# Altium schematic symbol library WE-MPSA.SchLib: 16 symbols
Pins are listed as number, name and electrical type; pins without a type are passive.

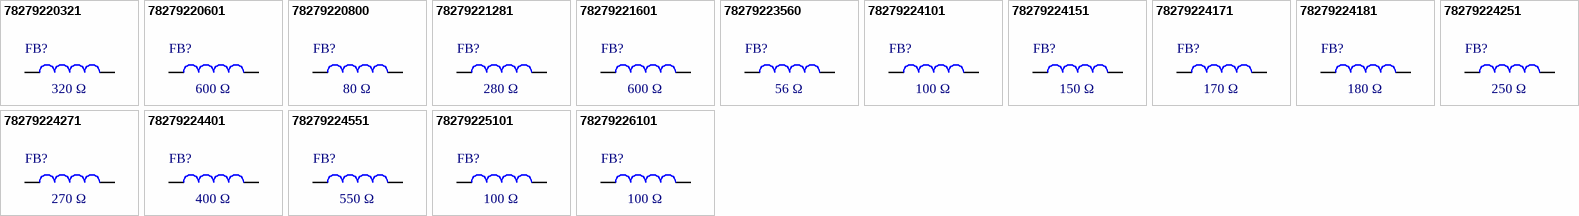
[diagram p0: symbols 78279220321 to 78279226101]

## 78279220321
designator FB?, comment 320 Ω
WE-MPSA EMI Multilayer Power Suppression Bead, size 0805, 320 Ω, 2.5 A; Manufacturer Part Number: 78279220321; Manufacturer: Wurth Elektronik; Case/Size Code: 0805; DC Resistance Max: 50 mΩ; Impedance Max: 347 Ω; Rated Current: 2.5 A; Type: High Current; Category: Ferrites for PCB Assembly; Match Code: WE-MPSA; ComponentLink1Description: Website Link; ComponentLink1URL: https://www.we-online.com/redexpert/article/78279220321?ad; ComponentLink2Description: Datasheet Link; ComponentLink2URL: https://www.we-online.com/redexpert/spec/78279220321?ad; Mount: Surface Mount; Min Operating Temperature: -55 °C; Max Operating Temperature: 125 °C; Packaging: Tape and Reel; Length: 2 mm; Width: 1.2 mm; Height: 0.9 mm; Automotive: Yes; Impedance @100MHz: 320 Ω
footprint WE-MPSA_0805_L2W1.2H0.9
simulation model 0805_78279220321_320Ohm
pins: 1, 2

## 78279220601
designator FB?, comment 600 Ω
WE-MPSA EMI Multilayer Power Suppression Bead, size 0805, 600 Ω, 2.1 A; Manufacturer Part Number: 78279220601; Manufacturer: Wurth Elektronik; Case/Size Code: 0805; DC Resistance Max: 80 mΩ; Impedance Max: 551 Ω; Rated Current: 2.1 A; Type: High Current; Category: Ferrites for PCB Assembly; Match Code: WE-MPSA; ComponentLink1Description: Website Link; ComponentLink1URL: https://www.we-online.com/redexpert/article/78279220601?ad; ComponentLink2Description: Datasheet Link; ComponentLink2URL: https://www.we-online.com/redexpert/spec/78279220601?ad; Mount: Surface Mount; Min Operating Temperature: -55 °C; Max Operating Temperature: 125 °C; Packaging: Tape and Reel; Length: 2 mm; Width: 1.2 mm; Height: 0.9 mm; Automotive: Yes; Impedance @100MHz: 600 Ω
footprint WE-MPSA_0805_L2W1.2H0.9
simulation model 0805_78279220601_600Ohm
pins: 1, 2

## 78279220800
designator FB?, comment 80 Ω
WE-MPSA EMI Multilayer Power Suppression Bead, size 0805, 80 Ω, 4 A; Manufacturer Part Number: 78279220800; Manufacturer: Wurth Elektronik; Case/Size Code: 0805; DC Resistance Max: 18 mΩ; Impedance Max: 120 Ω; Rated Current: 4 A; Type: High Current; Category: Ferrites for PCB Assembly; Match Code: WE-MPSA; ComponentLink1Description: Website Link; ComponentLink1URL: https://www.we-online.com/redexpert/article/78279220800?ad; ComponentLink2Description: Datasheet Link; ComponentLink2URL: https://www.we-online.com/redexpert/spec/78279220800?ad; Mount: Surface Mount; Min Operating Temperature: -55 °C; Max Operating Temperature: 125 °C; Packaging: Tape and Reel; Length: 2 mm; Width: 1.2 mm; Height: 0.9 mm; Automotive: Yes; Impedance @100MHz: 80 Ω
footprint WE-MPSA_0805_L2W1.2H0.9
simulation model 0805_78279220800_80Ohm
pins: 1, 2

## 78279221281
designator FB?, comment 280 Ω
WE-MPSA EMI Multilayer Power Suppression Bead, size 1206, 280 Ω, 3.5 A; Manufacturer Part Number: 78279221281; Manufacturer: Wurth Elektronik; Case/Size Code: 1206; DC Resistance Max: 35 mΩ; Impedance Max: 288 Ω; Rated Current: 3.5 A; Type: High Current; Category: Ferrites for PCB Assembly; Match Code: WE-MPSA; ComponentLink1Description: Website Link; ComponentLink1URL: https://www.we-online.com/redexpert/article/78279221281?ad; ComponentLink2Description: Datasheet Link; ComponentLink2URL: https://www.we-online.com/redexpert/spec/78279221281?ad; Mount: Surface Mount; Min Operating Temperature: -55 °C; Max Operating Temperature: 125 °C; Packaging: Tape and Reel; Length: 3.2 mm; Width: 1.6 mm; Height: 1.1 mm; Automotive: Yes; Impedance @100MHz: 280 Ω
footprint WE-MPSA_1206_L3.2W1.6H1.1
simulation model 1206_78279221281_280Ohm
pins: 1, 2

## 78279221601
designator FB?, comment 600 Ω
WE-MPSA EMI Multilayer Power Suppression Bead, size 1206, 600 Ω, 2.5 A; Manufacturer Part Number: 78279221601; Manufacturer: Wurth Elektronik; Case/Size Code: 1206; DC Resistance Max: 50 mΩ; Impedance Max: 610 Ω; Rated Current: 2.5 A; Type: High Current; Category: Ferrites for PCB Assembly; Match Code: WE-MPSA; ComponentLink1Description: Website Link; ComponentLink1URL: https://www.we-online.com/redexpert/article/78279221601?ad; ComponentLink2Description: Datasheet Link; ComponentLink2URL: https://www.we-online.com/redexpert/spec/78279221601?ad; Mount: Surface Mount; Min Operating Temperature: -55 °C; Max Operating Temperature: 125 °C; Packaging: Tape and Reel; Length: 3.2 mm; Width: 1.6 mm; Height: 1.1 mm; Automotive: Yes; Impedance @100MHz: 600 Ω
footprint WE-MPSA_1206_L3.2W1.6H1.1
simulation model 1206_78279221601_600Ohm
pins: 1, 2

## 78279223560
designator FB?, comment 56 Ω
WE-MPSA EMI Multilayer Power Suppression Bead, size 1612, 56 Ω, 10 A; Manufacturer Part Number: 78279223560; Manufacturer: Wurth Elektronik; Case/Size Code: 1612; DC Resistance Max: 4 mΩ; Impedance Max: 90 Ω; Rated Current: 10 A; Type: High Current; Category: Ferrites for PCB Assembly; Match Code: WE-MPSA; ComponentLink1Description: Website Link; ComponentLink1URL: https://www.we-online.com/redexpert/article/78279223560?ad; ComponentLink2Description: Datasheet Link; ComponentLink2URL: https://www.we-online.com/redexpert/spec/78279223560?ad; Mount: Surface Mount; Min Operating Temperature: -55 °C; Max Operating Temperature: 125 °C; Packaging: Tape and Reel; Length: 4.06 mm; Width: 3.05 mm; Height: 2.28 mm; Automotive: Yes; Impedance @100MHz: 56 Ω
footprint WE-MPSA_1612_L4.06W3.05H2.28
simulation model 1612_78279223560_56Ohm
pins: 1, 2

## 78279224101
designator FB?, comment 100 Ω
WE-MPSA EMI Multilayer Power Suppression Bead, size 2220, 100 Ω, 7 A; Manufacturer Part Number: 78279224101; Manufacturer: Wurth Elektronik; Case/Size Code: 2220; DC Resistance Max: 5 mΩ; Impedance Max: 160 Ω; Rated Current: 7 A; Type: High Current; Category: Ferrites for PCB Assembly; Match Code: WE-MPSA; ComponentLink1Description: Website Link; ComponentLink1URL: https://www.we-online.com/redexpert/article/78279224101?ad; ComponentLink2Description: Datasheet Link; ComponentLink2URL: https://www.we-online.com/redexpert/spec/78279224101?ad; Mount: Surface Mount; Min Operating Temperature: -55 °C; Max Operating Temperature: 125 °C; Packaging: Tape and Reel; Length: 5.59 mm; Width: 5.08 mm; Height: 1.8 mm; Automotive: Yes; Impedance @100MHz: 100 Ω
footprint WE-MPSA_2220_L5.59W5.08H1.8
simulation model 2220_78279224101_100Ohm
pins: 1, 2

## 78279224151
designator FB?, comment 150 Ω
WE-MPSA EMI Multilayer Power Suppression Bead, size 2220, 150 Ω, 5 A; Manufacturer Part Number: 78279224151; Manufacturer: Wurth Elektronik; Case/Size Code: 2220; DC Resistance Max: 10 mΩ; Impedance Max: 230 Ω; Rated Current: 5 A; Type: High Current; Category: Ferrites for PCB Assembly; Match Code: WE-MPSA; ComponentLink1Description: Website Link; ComponentLink1URL: https://www.we-online.com/redexpert/article/78279224151?ad; ComponentLink2Description: Datasheet Link; ComponentLink2URL: https://www.we-online.com/redexpert/spec/78279224151?ad; Mount: Surface Mount; Min Operating Temperature: -55 °C; Max Operating Temperature: 125 °C; Packaging: Tape and Reel; Length: 5.59 mm; Width: 5.08 mm; Height: 1.8 mm; Automotive: Yes; Impedance @100MHz: 150 Ω
footprint WE-MPSA_2220_L5.59W5.08H1.8
simulation model 2220_78279224151_150Ohm
pins: 1, 2

## 78279224171
designator FB?, comment 170 Ω
WE-MPSA EMI Multilayer Power Suppression Bead, size 2220, 170 Ω, 4 A; Manufacturer Part Number: 78279224171; Manufacturer: Wurth Elektronik; Case/Size Code: 2220; DC Resistance Max: 15 mΩ; Impedance Max: 280 Ω; Rated Current: 4 A; Type: High Current; Category: Ferrites for PCB Assembly; Match Code: WE-MPSA; ComponentLink1Description: Website Link; ComponentLink1URL: https://www.we-online.com/redexpert/article/78279224171?ad; ComponentLink2Description: Datasheet Link; ComponentLink2URL: https://www.we-online.com/redexpert/spec/78279224171?ad; Mount: Surface Mount; Min Operating Temperature: -55 °C; Max Operating Temperature: 125 °C; Packaging: Tape and Reel; Length: 5.59 mm; Width: 5.08 mm; Height: 1.52 mm; Automotive: Yes; Impedance @100MHz: 170 Ω
footprint WE-MPSA_2220_L5.59W5.08H1.52
simulation model 2220_78279224171_170Ohm
pins: 1, 2

## 78279224181
designator FB?, comment 180 Ω
WE-MPSA EMI Multilayer Power Suppression Bead, size 2220, 180 Ω, 5 A; Manufacturer Part Number: 78279224181; Manufacturer: Wurth Elektronik; Case/Size Code: 2220; DC Resistance Max: 10 mΩ; Impedance Max: 240 Ω; Rated Current: 5 A; Type: High Current; Category: Ferrites for PCB Assembly; Match Code: WE-MPSA; ComponentLink1Description: Website Link; ComponentLink1URL: https://www.we-online.com/redexpert/article/78279224181?ad; ComponentLink2Description: Datasheet Link; ComponentLink2URL: https://www.we-online.com/redexpert/spec/78279224181?ad; Mount: Surface Mount; Min Operating Temperature: -55 °C; Max Operating Temperature: 125 °C; Packaging: Tape and Reel; Length: 5.59 mm; Width: 5.08 mm; Height: 1.8 mm; Automotive: Yes; Impedance @100MHz: 180 Ω
footprint WE-MPSA_2220_L5.59W5.08H1.8
simulation model 2220_78279224181_180Ohm
pins: 1, 2

## 78279224251
designator FB?, comment 250 Ω
WE-MPSA EMI Multilayer Power Suppression Bead, size 2220, 250 Ω, 4 A; Manufacturer Part Number: 78279224251; Manufacturer: Wurth Elektronik; Case/Size Code: 2220; DC Resistance Max: 12 mΩ; Impedance Max: 300 Ω; Rated Current: 4 A; Type: High Current; Category: Ferrites for PCB Assembly; Match Code: WE-MPSA; ComponentLink1Description: Website Link; ComponentLink1URL: https://www.we-online.com/redexpert/article/78279224251?ad; ComponentLink2Description: Datasheet Link; ComponentLink2URL: https://www.we-online.com/redexpert/spec/78279224251?ad; Mount: Surface Mount; Min Operating Temperature: -55 °C; Max Operating Temperature: 125 °C; Packaging: Tape and Reel; Length: 5.59 mm; Width: 5.08 mm; Height: 1.8 mm; Automotive: Yes; Impedance @100MHz: 250 Ω
footprint WE-MPSA_2220_L5.59W5.08H1.8
simulation model 2220_78279224251_250Ohm
pins: 1, 2

## 78279224271
designator FB?, comment 270 Ω
WE-MPSA EMI Multilayer Power Suppression Bead, size 2220, 270 Ω, 4 A; Manufacturer Part Number: 78279224271; Manufacturer: Wurth Elektronik; Case/Size Code: 2220; DC Resistance Max: 20 mΩ; Impedance Max: 350 Ω; Rated Current: 4 A; Type: High Current; Category: Ferrites for PCB Assembly; Match Code: WE-MPSA; ComponentLink1Description: Website Link; ComponentLink1URL: https://www.we-online.com/redexpert/article/78279224271?ad; ComponentLink2Description: Datasheet Link; ComponentLink2URL: https://www.we-online.com/redexpert/spec/78279224271?ad; Mount: Surface Mount; Min Operating Temperature: -55 °C; Max Operating Temperature: 125 °C; Packaging: Tape and Reel; Length: 5.59 mm; Width: 5.08 mm; Height: 3.2 mm; Automotive: Yes; Impedance @100MHz: 270 Ω
footprint WE-MPSA_2220_L5.59W5.08H3.2
simulation model 2220_78279224271_270Ohm
pins: 1, 2

## 78279224401
designator FB?, comment 400 Ω
WE-MPSA EMI Multilayer Power Suppression Bead, size 2220, 400 Ω, 4.5 A; Manufacturer Part Number: 78279224401; Manufacturer: Wurth Elektronik; Case/Size Code: 2220; DC Resistance Max: 20 mΩ; Impedance Max: 460 Ω; Rated Current: 4.5 A; Type: High Current; Category: Ferrites for PCB Assembly; Match Code: WE-MPSA; ComponentLink1Description: Website Link; ComponentLink1URL: https://www.we-online.com/redexpert/article/78279224401?ad; ComponentLink2Description: Datasheet Link; ComponentLink2URL: https://www.we-online.com/redexpert/spec/78279224401?ad; Mount: Surface Mount; Min Operating Temperature: -55 °C; Max Operating Temperature: 125 °C; Packaging: Tape and Reel; Length: 5.59 mm; Width: 5.08 mm; Height: 1.8 mm; Automotive: Yes; Impedance @100MHz: 400 Ω
footprint WE-MPSA_2220_L5.59W5.08H1.8
simulation model 2220_78279224401_400Ohm
pins: 1, 2

## 78279224551
designator FB?, comment 550 Ω
WE-MPSA EMI Multilayer Power Suppression Bead, size 2220, 550 Ω, 4 A; Manufacturer Part Number: 78279224551; Manufacturer: Wurth Elektronik; Case/Size Code: 2220; DC Resistance Max: 35 mΩ; Impedance Max: 660 Ω; Rated Current: 4 A; Type: High Current; Category: Ferrites for PCB Assembly; Match Code: WE-MPSA; ComponentLink1Description: Website Link; ComponentLink1URL: https://www.we-online.com/redexpert/article/78279224551?ad; ComponentLink2Description: Datasheet Link; ComponentLink2URL: https://www.we-online.com/redexpert/spec/78279224551?ad; Mount: Surface Mount; Min Operating Temperature: -55 °C; Max Operating Temperature: 125 °C; Packaging: Tape and Reel; Length: 5.59 mm; Width: 5.08 mm; Height: 1.97 mm; Automotive: Yes; Impedance @100MHz: 550 Ω
footprint WE-MPSA_2220_L5.59W5.08H1.97
simulation model 2220_78279224551_550Ohm
pins: 1, 2

## 78279225101
designator FB?, comment 100 Ω
WE-MPSA EMI Multilayer Power Suppression Bead, size 3312, 100 Ω, 10 A; Manufacturer Part Number: 78279225101; Manufacturer: Wurth Elektronik; Case/Size Code: 3312; DC Resistance Max: 4 mΩ; Impedance Max: 160 Ω; Rated Current: 10 A; Type: High Current; Category: Ferrites for PCB Assembly; Match Code: WE-MPSA; ComponentLink1Description: Website Link; ComponentLink1URL: https://www.we-online.com/redexpert/article/78279225101?ad; ComponentLink2Description: Datasheet Link; ComponentLink2URL: https://www.we-online.com/redexpert/spec/78279225101?ad; Mount: Surface Mount; Min Operating Temperature: -55 °C; Max Operating Temperature: 125 °C; Packaging: Tape and Reel; Length: 8.5 mm; Width: 3.05 mm; Height: 2.28 mm; Automotive: Yes; Impedance @100MHz: 100 Ω
footprint WE-MPSA_3312_L8.5W3.05H2.28
simulation model 3312_78279225101_100Ohm
pins: 1, 2

## 78279226101
designator FB?, comment 100 Ω
WE-MPSA EMI Multilayer Power Suppression Bead, size 1812, 100 Ω, 8 A; Manufacturer Part Number: 78279226101; Manufacturer: Wurth Elektronik; Case/Size Code: 1812; DC Resistance Max: 6 mΩ; Impedance Max: 160 Ω; Rated Current: 8 A; Type: High Current; Category: Ferrites for PCB Assembly; Match Code: WE-MPSA; ComponentLink1Description: Website Link; ComponentLink1URL: https://www.we-online.com/redexpert/article/78279226101?ad; ComponentLink2Description: Datasheet Link; ComponentLink2URL: https://www.we-online.com/redexpert/spec/78279226101?ad; Mount: Surface Mount; Min Operating Temperature: -55 °C; Max Operating Temperature: 125 °C; Packaging: Tape and Reel; Length: 4.5 mm; Width: 3.2 mm; Height: 2.3 mm; Automotive: Yes; Impedance @100MHz: 100 Ω
footprint WE-MPSA_1812_L4.5W3.2H2.3
simulation model 1812_78279226101_100Ohm
pins: 1, 2